# Altium integrated library JODY-W56x_Module_for_EVB.IntLib: 1 symbol
Pins are listed as number, name and electrical type; pins without a type are passive.

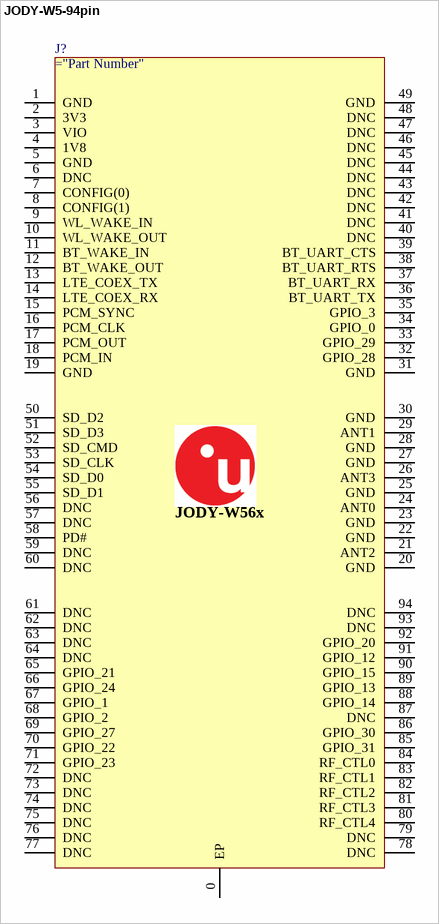
[diagram p0: symbol JODY-W5-94pin]

## JODY-W5-94pin
designator J?  (no BOM)
JODY-W5 double rows 94pin LGA; ComponentLink1URL: *; ComponentLink1Description: Datasheet; ComponentLink2URL: *; ComponentLink2Description: Supplier link; Manufacturer P/N: *
footprint JODY-W3_Pinout_mirror (Module footprint for EVB (include Paste Mask))
pins: 0 EP, 1 GND, 2 3V3, 3 VIO, 4 1V8, 5 GND, 6 DNC, 7 CONFIG(0), 8 CONFIG(1), 9 WL_WAKE_IN, 10 WL_WAKE_OUT, 11 BT_WAKE_IN, 12 BT_WAKE_OUT, 13 LTE_COEX_TX, 14 LTE_COEX_RX, 15 PCM_SYNC, 16 PCM_CLK, 17 PCM_OUT, 18 PCM_IN, 19 GND, 20 GND, 21 ANT2, 22 GND, 23 GND, 24 ANT0, 25 GND, 26 ANT3, 27 GND, 28 GND, 29 ANT1, 30 GND, 31 GND, 32 GPIO_28, 33 GPIO_29, 34 GPIO_0, 35 GPIO_3, 36 BT_UART_TX, 37 BT_UART_RX, 38 BT_UART_RTS, 39 BT_UART_CTS, 40 DNC, 41 DNC, 42 DNC, 43 DNC, 44 DNC, 45 DNC, 46 DNC, 47 DNC, 48 DNC, 49 GND, 50 SD_D2, 51 SD_D3, 52 SD_CMD, 53 SD_CLK, 54 SD_D0, 55 SD_D1, 56 DNC, 57 DNC, 58 PD#, 59 DNC, 60 DNC, 61 DNC, 62 DNC, 63 DNC, 64 DNC, 65 GPIO_21, 66 GPIO_24, 67 GPIO_1, 68 GPIO_2, 69 GPIO_27, 70 GPIO_22, 71 GPIO_23, 72 DNC, 73 DNC, 74 DNC, 75 DNC, 76 DNC, 77 DNC, 78 DNC, 79 DNC, 80 RF_CTL4, 81 RF_CTL3, 82 RF_CTL2, 83 RF_CTL1, 84 RF_CTL0, 85 GPIO_31, 86 GPIO_30, 87 DNC, 88 GPIO_14, 89 GPIO_13, 90 GPIO_15, 91 GPIO_12, 92 GPIO_20, 93 DNC, 94 DNC
text: JODY-W56x